# Altium schematic symbol library FC-28.SchLib: 1 symbol
Pins are listed as number, name and electrical type; pins without a type are passive.

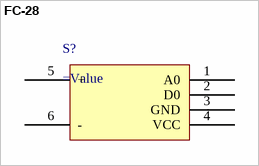
[diagram p0: symbol FC-28]

## FC-28
designator S?
=Description
pins: 1 A0, 2 D0, 3 GND, 4 VCC, 5 +, 6 -